# EAGLE library part TRINKET_5V (library adafruit_Trinket)
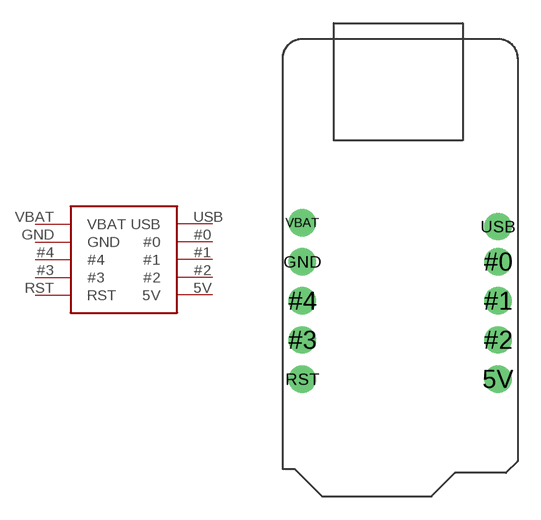
[diagram p0: symbol with the pads of TRINKET_5V; footprint TRINKET_5V]

Designator prefix -

## TRINKET_5V  [TRINKET_5V]
5V  5V
#0  #0
#1  #1
#2  #2
#3  #3
#4  #4
GND  GND
RST  RST
USB  USB
VBAT  VBAT

## Footprint TRINKET_5V (pad centres in mm)
drill 1.016 pad 1.778: 5V 13.97,5.842; #0 13.97,13.462; #1 13.97,10.922; #2 13.97,8.382; #3 1.27,8.382; #4 1.27,10.922; GND 1.27,13.462; RST 1.27,5.842; USB 13.97,15.748; VBAT 1.27,16.002